# EAGLE library part TPS610992YFFT (library TPS610992YFFT)
Conv DC-DC 0.7V to 5.5V Synchronous Step Down Single-Out 1.8V to 5.5V 0.3A 6-Pin DSBGA T/R Source: Datasheet <http://www.ti.com/general/docs/suppproductinfo.tsp?distId=10&gotoUrl=http://www.ti.com/lit/gpn/tps61099>
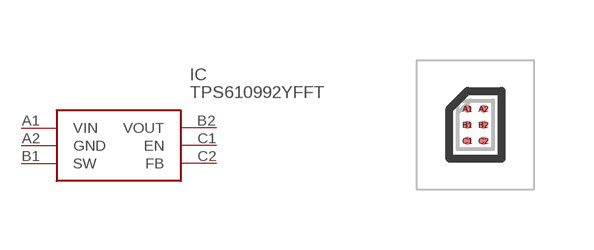
[diagram p0: symbol with the pads of BGA6C40P2X3_88X123X62; footprint BGA6C40P2X3_88X123X62]

Designator prefix IC

## TPS610992YFFT (Arrow_Part_Number: TPS610992YFFT; Arrow_Price-Stock: https://www.arrow.com/en/products/tps610992yfft/texas-instruments?region=nac; Description: Conv DC-DC 0.7V to 5.5V Synchronous Step Down Single-Out 1.8V to 5.5V 0.3A 6-Pin DSBGA T/R; Height: 0.625mm; Manufacturer_Name: Texas Instruments; Manufacturer_Part_Number: TPS610992YFFT; Mouser_Part_Number: 595-TPS610992YFFT; Mouser_Price-Stock: https://www.mouser.co.uk/ProductDetail/Texas-Instruments/TPS610992YFFT?qs=1mbolxNpo8cSEKMr%252BGh28A%3D%3D)  [BGA6C40P2X3_88X123X62]
A1  VIN
A2  GND
B1  SW
B2  VOUT
C1  EN
C2  FB

## Footprint BGA6C40P2X3_88X123X62 (pad centres in mm)
YFF (R-XBGA-N6)_1
smd 0.2 x 0.2: A1 -0.2,0.4; A2 0.2,0.4; B1 -0.2,0; B2 0.2,0; C1 -0.2,-0.4; C2 0.2,-0.4